# EAGLE library part LCD_CFAL12832A022 (library teelsys-0.2)
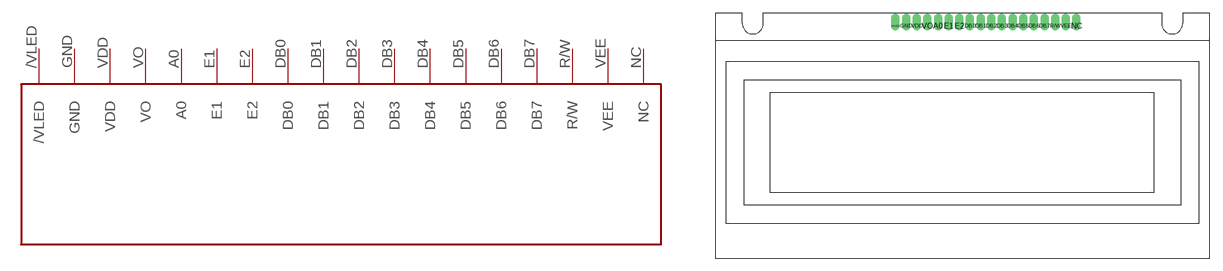
[diagram p15: symbol with the pads of LCD_CFAL12832A022; footprint LCD_CFAL12832A022]

Designator prefix -

## LCD_CFAL12832A022  [LCD_CFAL12832A022]
/VLED  /VLED
A0  A0
DB0  DB0
DB1  DB1
DB2  DB2
DB3  DB3
DB4  DB4
DB5  DB5
DB6  DB6
DB7  DB7
E1  E1
E2  E2
GND  GND
NC  NC
R/W  R/W
VDD  VDD
VEE  VEE
VO  VO

## Footprint LCD_CFAL12832A022 (pad centres in mm)
drill 0.5 offset: /VLED 21.5,27.7; A0 26.58,27.7; DB0 30.39,27.7; DB1 31.66,27.7; DB2 32.93,27.7; DB3 34.2,27.7; DB4 35.47,27.7; DB5 36.74,27.7; DB6 38.01,27.7; DB7 39.28,27.7; E1 27.85,27.7; E2 29.12,27.7; GND 22.77,27.7; NC 43.09,27.7; R/W 40.55,27.7; VDD 24.07,27.7; VEE 41.82,27.7; VO 25.31,27.7